# EAGLE library part AN7195Z (library Audio-Power-amlifier V.2.0)
The AN7195Z is an audio power IC developed for the sound output of car audio (dual 15 W). It is incorporating various protection circuits to protect the IC from destruction by GND-open short-circuit to GND and power supply surge which are the most important subjects of power IC protection, and the IC will largely contribute to a high reliability design of equipment.
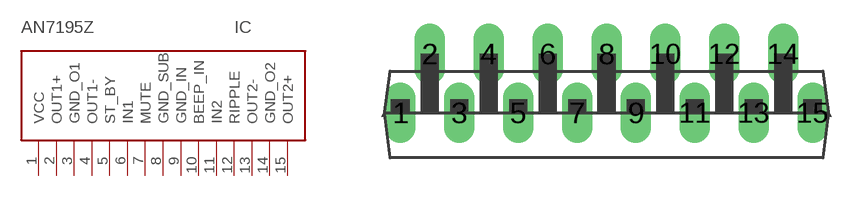
[diagram p135: symbol with the pads of HZIP015-P-0745A-1,27; footprint HZIP015-P-0745A-1,27]

Designator prefix IC

## AN7195Z  [HZIP015-P-0745A-1,27]
1  VCC  pwr
2  OUT1+  out
3  GND_O1  pwr
4  OUT1-  out
5  ST_BY  in
6  IN1  in
7  MUTE  in
8  GND_SUB  pwr
9  GND_IN  pwr
10  BEEP_IN  in
11  IN2  in
12  RIPPLE
13  OUT2-  out
14  GND_O2  pwr
15  OUT2+  out

## Footprint HZIP015-P-0745A-1,27 (pad centres in mm)
drill 0.8 long: 1 -8.89,-1.27; 2 -7.62,1.27; 3 -6.35,-1.27; 4 -5.08,1.27; 5 -3.81,-1.27; 6 -2.54,1.27; 7 -1.27,-1.27; 8 0,1.27; 9 1.27,-1.27; 10 2.54,1.27; 11 3.81,-1.27; 12 5.08,1.27; 13 6.35,-1.27; 14 7.62,1.27; 15 8.89,-1.27